# Altium footprint library CE_25X30MM.PcbLib: 1 footprints
Each footprint in its own frame and in the unit in brackets; x right, y up, seen from the top. Pads: shape width x height; smd on the part's side, far side on the other; paste and mask are expansions set on the pad; w line width, h text height; cw(c..) or ccw(c..) is an arc to the next point about the centre after c.
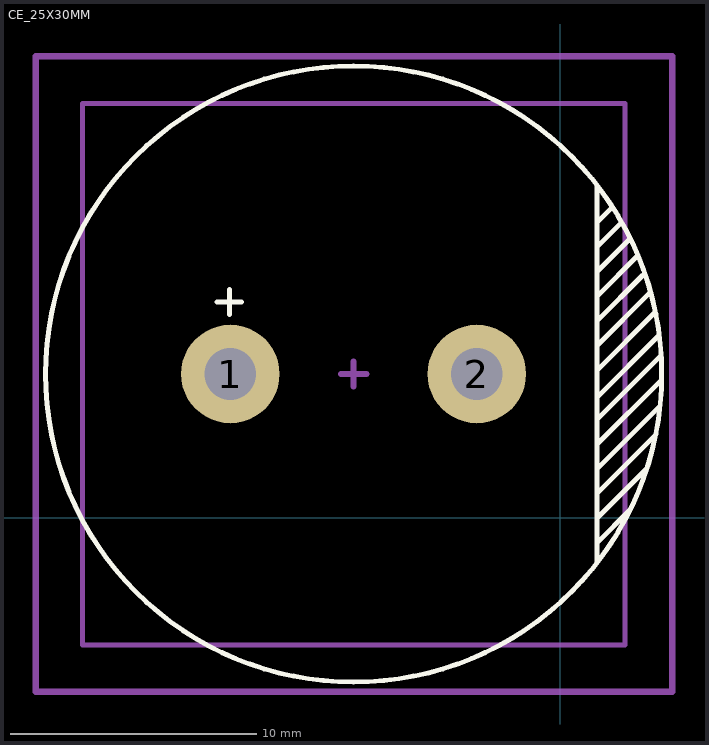
[diagram p0: the footprint, top view; thin cyan lines are the x and y axes]

## CE_25X30MM [mm]
pads (2):
  round 4 hole 2.1: 1(-13.382,5.842)
  round 4 hole 2.1 mask+0.102: 2(-3.382,5.842)
Top Overlay:
  circle w0.2: c-8.382,5.842 r12.5
  lines w0.2: -13.922,8.763 -12.922,8.763 ; -13.422,8.263 -13.422,9.263 ; 1.5,-1.813 1.5,13.497 ; 1.5,-1 2.834,0.334 ; 1.5,0 3.506,2.006 ; 1.5,1 3.85,3.35 ; 1.5,2 4.038,4.538 ; 1.5,3 4.113,5.613 ; 1.5,4 4.075,6.575 ; 1.5,4.905 3.998,7.402 ; 1.5,6 3.825,8.325 ; 1.5,7 3.612,9.113 ; 1.5,8 3.337,9.837 ; 1.5,9 3.15,10.65 ; 1.5,10 2.837,11.337 ; 1.5,11 2.498,11.998 ; 1.5,12 2.113,12.612
Top Assembly:
  circle w0.127: c-8.382,5.842 r12.5
  lines w0.2: -19.375,-5.15 -19.375,16.825 2.625,16.825 2.625,-5.15 -19.375,-5.15
Top Courtyard:
  lines w0.254: -19.685,18.735 2.794,18.735 ; -19.526,-7.051 2.953,-7.051 ; -8.89,5.842 -7.874,5.842 ; -8.382,5.334 -8.382,6.35 ; 4.543,-5.334 4.543,17.145 ; -21.275,-7.051 -21.275,18.735 4.543,18.735 4.543,-7.051 -21.275,-7.051
3D body "User Library-Cap electrolitic radial 22x35.STEP": height 35.8, standoff -0.7, extent -19.378,-5.157 2.614,16.84